# Altium footprint library Potentiometer_THT.PcbLib: 112 footprints (part 3 of 7)
Each footprint in its own frame and in the unit in brackets; x right, y up, seen from the top. Pads: shape width x height; smd on the part's side, far side on the other; paste and mask are expansions set on the pad; w line width, h text height; cw(c..) or ccw(c..) is an arc to the next point about the centre after c.
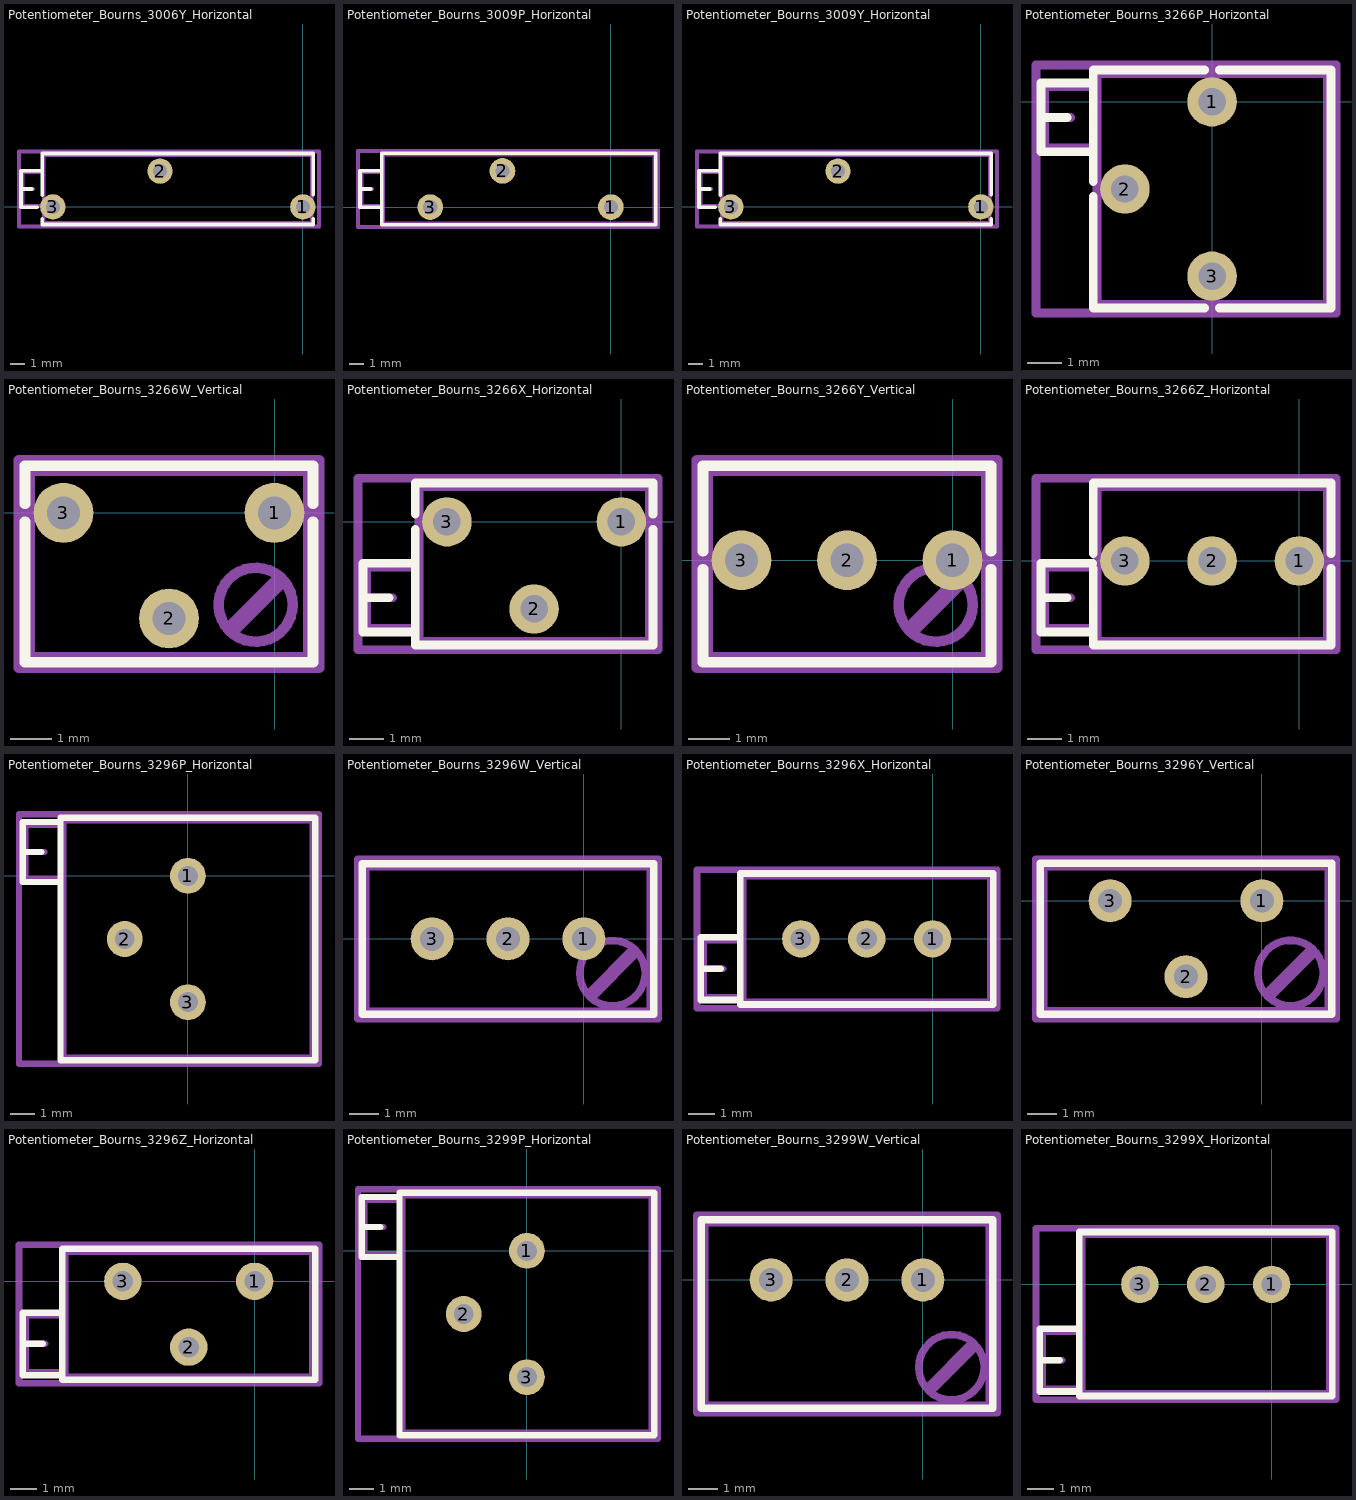
[diagram p2: the footprints below, top view; thin cyan lines are the x and y axes]

## Potentiometer_Bourns_3006Y_Horizontal [mm]
pads (3):
  round 1.8 hole 1: 1(0,0) 2(-10.16,2.54) 3(-17.78,0)
F.SilkS:
  lines w0.254: -20.05,1.27 -19.29,1.27 ; -18.91,-0.02 -20.05,-0.02 -20.05,2.56 -18.53,2.56 -18.53,0.845 -18.53,3.795 0.74,3.795 0.74,0.854 ; -18.53,-0.845 -18.53,-1.255 0.74,-1.255 0.74,-0.854
F.Fab:
  lines w0.254: -19.94,1.27 -19.18,1.27 ; -19.94,0.09 -19.94,2.45 -18.42,2.45 -18.42,0.09 -19.94,0.09 ; -18.42,-1.145 -18.42,3.685 0.63,3.685 0.63,-1.145 -18.42,-1.145
  text "'.Designator'" at -12.942,0.43 h1
F.CrtYd:
  lines w0.254: -20.19,-1.4 -20.19,3.94 1.15,3.94 1.15,-1.4 -20.19,-1.4
3D body "Potentiometer_Bourns_3006Y_Horizontal.step": height 6.45, standoff -2.9, extent -19.94,-1.145 0.63,3.685

## Potentiometer_Bourns_3009P_Horizontal [mm]
pads (3):
  round 1.8 hole 1: 1(0,0) 2(-7.62,2.54) 3(-12.7,0)
F.SilkS:
  lines w0.254: -17.63,1.27 -16.87,1.27 ; -17.63,-0.02 -17.63,2.56 -16.11,2.56 -16.11,-0.02 -17.63,-0.02 ; -16.11,-1.255 -16.11,3.795 3.16,3.795 3.16,-1.255 -16.11,-1.255
F.Fab:
  lines w0.254: -17.52,1.27 -16.76,1.27 ; -17.52,0.09 -17.52,2.45 -16,2.45 -16,0.09 -17.52,0.09 ; -16,-1.145 -16,3.685 3.05,3.685 3.05,-1.145 -16,-1.145
  text "'.Designator'" at -10.522,0.43 h1
F.CrtYd:
  lines w0.254: -17.77,-1.4 -17.77,3.94 3.31,3.94 3.31,-1.4 -17.77,-1.4
3D body "Potentiometer_Bourns_3009P_Horizontal.step": height 9.08, standoff -2.9, extent -17.52,-1.145 3.05,3.685

## Potentiometer_Bourns_3009Y_Horizontal [mm]
pads (3):
  round 1.8 hole 1: 1(0,0) 2(-10.16,2.54) 3(-17.78,0)
F.SilkS:
  lines w0.254: -20.05,1.27 -19.29,1.27 ; -18.91,-0.02 -20.05,-0.02 -20.05,2.56 -18.53,2.56 -18.53,0.845 -18.53,3.795 0.74,3.795 0.74,0.854 ; -18.53,-0.845 -18.53,-1.255 0.74,-1.255 0.74,-0.854
F.Fab:
  lines w0.254: -19.94,1.27 -19.18,1.27 ; -19.94,0.09 -19.94,2.45 -18.42,2.45 -18.42,0.09 -19.94,0.09 ; -18.42,-1.145 -18.42,3.685 0.63,3.685 0.63,-1.145 -18.42,-1.145
  text "'.Designator'" at -12.942,0.43 h1
F.CrtYd:
  lines w0.254: -20.19,-1.4 -20.19,3.94 1.15,3.94 1.15,-1.4 -20.19,-1.4
3D body "Potentiometer_Bourns_3009Y_Horizontal.step": height 9.08, standoff -2.9, extent -19.94,-1.145 0.63,3.685

## Potentiometer_Bourns_3266P_Horizontal [mm]
pads (3):
  round 1.44 hole 0.8: 1(0,0) 2(-2.54,-2.54) 3(0,-5.08)
F.SilkS:
  lines w0.254: -4.985,-0.455 -4.225,-0.455 ; -3.465,-2.757 -3.465,-6.005 -0.217,-6.005 ; -3.465,-2.323 -3.465,0.925 -0.217,0.925 ; 0.217,-6.005 3.465,-6.005 3.465,0.925 0.217,0.925 ; -4.985,-1.455 -4.985,0.545 -3.465,0.545 -3.465,-1.455 -4.985,-1.455
F.Fab:
  lines w0.254: -4.875,-0.455 -4.115,-0.455 ; -4.875,-1.345 -4.875,0.435 -3.355,0.435 -3.355,-1.345 -4.875,-1.345 ; -3.355,-5.895 -3.355,0.815 3.355,0.815 3.355,-5.895 -3.355,-5.895
  text "'.Designator'" at -4.047,-3.38 h1
F.CrtYd:
  lines w0.254: -5.13,-6.15 -5.13,1.07 3.61,1.07 3.61,-6.15 -5.13,-6.15
3D body "Potentiometer_Bourns_3266P_Horizontal.step": height 4.96, standoff -4.88, extent -4.327,-5.895 3.48,0.815

## Potentiometer_Bourns_3266W_Vertical [mm]
pads (3):
  round 1.44 hole 0.8: 1(0,0) 2(-2.54,-2.54) 3(-5.08,0)
F.SilkS:
  lines w0.254: -6.005,-0.217 -6.005,-3.59 0.925,-3.59 0.925,-0.217 ; -6.005,0.217 -6.005,1.13 0.925,1.13 0.925,0.217
F.Fab:
  circle w0.254: c-0.455,-2.21 r0.89
  lines w0.254: -1.13,-2.776 0.111,-1.535 ; -1.021,-2.885 0.22,-1.644 ; -5.895,-3.48 -5.895,1.02 0.815,1.02 0.815,-3.48 -5.895,-3.48
  text "'.Designator'" at -6.861,-1.998 h0.91
F.CrtYd:
  lines w0.254: -6.15,-3.73 -6.15,1.27 1.07,1.27 1.07,-3.73 -6.15,-3.73
3D body "Potentiometer_Bourns_3266W_Vertical.step": height 8.26, standoff -4.88, extent -5.895,-3.52 0.815,0.98

## Potentiometer_Bourns_3266X_Horizontal [mm]
pads (3):
  round 1.44 hole 0.8: 1(0,0) 2(-2.54,-2.54) 3(-5.08,0)
F.SilkS:
  lines w0.254: -7.525,-2.21 -6.765,-2.21 ; -6.005,-0.217 -6.005,-3.59 0.925,-3.59 0.925,-0.217 ; -6.005,0.217 -6.005,1.13 0.925,1.13 0.925,0.217 ; -7.525,-3.21 -7.525,-1.21 -6.005,-1.21 -6.005,-3.21 -7.525,-3.21
F.Fab:
  lines w0.254: -7.415,-2.21 -6.655,-2.21 ; -7.415,-3.1 -7.415,-1.32 -5.895,-1.32 -5.895,-3.1 -7.415,-3.1 ; -5.895,-3.48 -5.895,1.02 0.815,1.02 0.815,-3.48 -5.895,-3.48
  text "'.Designator'" at -6.587,-2.07 h1
F.CrtYd:
  lines w0.254: -7.67,-3.73 -7.67,1.27 1.07,1.27 1.07,-3.73 -7.67,-3.73
3D body "Potentiometer_Bourns_3266X_Horizontal.step": height 7.24, standoff -4.88, extent -6.915,-3.52 0.815,0.98

## Potentiometer_Bourns_3266Y_Vertical [mm]
pads (3):
  round 1.44 hole 0.8: 1(0,0) 2(-2.54,0) 3(-5.08,0)
F.SilkS:
  lines w0.254: -6.005,-0.217 -6.005,-2.45 0.925,-2.45 0.925,-0.217 ; -6.005,0.217 -6.005,2.27 0.925,2.27 0.925,0.217
F.Fab:
  circle w0.254: c-0.405,-1.07 r0.89
  lines w0.254: -1.08,-1.636 0.161,-0.395 ; -0.971,-1.745 0.27,-0.504 ; -5.895,-2.34 -5.895,2.16 0.815,2.16 0.815,-2.34 -5.895,-2.34
  text "'.Designator'" at -6.875,-0.865 h0.92
F.CrtYd:
  lines w0.254: -6.15,-2.59 -6.15,2.41 1.07,2.41 1.07,-2.59 -6.15,-2.59
3D body "Potentiometer_Bourns_3266Y_Vertical.step": height 8.26, standoff -4.88, extent -5.895,-2.25 0.815,2.25

## Potentiometer_Bourns_3266Z_Horizontal [mm]
pads (3):
  round 1.44 hole 0.8: 1(0,0) 2(-2.54,0) 3(-5.08,0)
F.SilkS:
  lines w0.254: -7.525,-1.07 -6.765,-1.07 ; -6.027,-0.07 -7.525,-0.07 -7.525,-2.07 -6.005,-2.07 -6.005,-0.217 -6.005,-2.45 0.925,-2.45 0.925,-0.217 ; -6.005,0.217 -6.005,2.27 0.925,2.27 0.925,0.217
F.Fab:
  lines w0.254: -7.415,-1.07 -6.655,-1.07 ; -7.415,-1.96 -7.415,-0.18 -5.895,-0.18 -5.895,-1.96 -7.415,-1.96 ; -5.895,-2.34 -5.895,2.16 0.815,2.16 0.815,-2.34 -5.895,-2.34
  text "'.Designator'" at -6.587,-0.93 h1
F.CrtYd:
  lines w0.254: -7.67,-2.59 -7.67,2.41 1.07,2.41 1.07,-2.59 -7.67,-2.59
3D body "Potentiometer_Bourns_3266Z_Horizontal.step": height 7.24, standoff -4.88, extent -6.915,-2.25 0.815,2.25

## Potentiometer_Bourns_3296P_Horizontal [mm]
pads (3):
  round 1.44 hole 0.8: 1(0,0) 2(-2.54,-2.54) 3(0,-5.08)
F.SilkS:
  lines w0.254: -6.645,0.955 -5.885,0.955 ; -6.645,-0.25 -6.645,2.16 -5.125,2.16 -5.125,-0.25 -6.645,-0.25 ; -5.125,-7.415 -5.125,2.335 5.125,2.335 5.125,-7.415 -5.125,-7.415
F.Fab:
  lines w0.254: -6.535,0.955 -5.775,0.955 ; -6.535,-0.14 -6.535,2.05 -5.015,2.05 -5.015,-0.14 -6.535,-0.14 ; -5.015,-7.305 -5.015,2.225 5.015,2.225 5.015,-7.305 -5.015,-7.305
  text "'.Designator'" at -4.047,-3.38 h1
F.CrtYd:
  lines w0.254: -6.79,-7.56 -6.79,2.48 5.27,2.48 5.27,-7.56 -6.79,-7.56
3D body "Potentiometer_Bourns_3296P_Horizontal.step": height 4.83, standoff -6.02, extent -5.825,-7.3 5.23,2.23

## Potentiometer_Bourns_3296W_Vertical [mm]
pads (3):
  round 1.44 hole 0.8: 1(0,0) 2(-2.54,0) 3(-5.08,0)
F.SilkS:
  lines w0.254: -7.415,-2.53 -7.415,2.52 2.335,2.52 2.335,-2.53 -7.415,-2.53
F.Fab:
  circle w0.254: c0.955,-1.15 r1.095
  lines w0.254: 0.125,-1.847 1.652,-0.32 ; 0.258,-1.98 1.785,-0.453 ; -7.305,-2.42 -7.305,2.41 2.225,2.41 2.225,-2.42 -7.305,-2.42
  text "'.Designator'" at -7.222,-0.845 h1
F.CrtYd:
  lines w0.254: -7.56,-2.67 -7.56,2.66 2.48,2.66 2.48,-2.67 -7.56,-2.67
3D body "Potentiometer_Bourns_3296W_Vertical.step": height 11.05, standoff -6.02, extent -7.305,-2.42 2.225,2.41

## Potentiometer_Bourns_3296X_Horizontal [mm]
pads (3):
  round 1.44 hole 0.8: 1(0,0) 2(-2.54,0) 3(-5.08,0)
F.SilkS:
  lines w0.254: -8.935,-1.15 -8.175,-1.15 ; -8.935,-2.355 -8.935,0.055 -7.415,0.055 -7.415,-2.355 -8.935,-2.355 ; -7.415,-2.53 -7.415,2.52 2.335,2.52 2.335,-2.53 -7.415,-2.53
F.Fab:
  lines w0.254: -8.825,-1.15 -8.065,-1.15 ; -8.825,-2.245 -8.825,-0.055 -7.305,-0.055 -7.305,-2.245 -8.825,-2.245 ; -7.305,-2.42 -7.305,2.41 2.225,2.41 2.225,-2.42 -7.305,-2.42
  text "'.Designator'" at -6.587,-0.845 h1
F.CrtYd:
  lines w0.254: -9.08,-2.67 -9.08,2.66 2.48,2.66 2.48,-2.67 -9.08,-2.67
3D body "Potentiometer_Bourns_3296X_Horizontal.step": height 10.03, standoff -6.02, extent -8.26,-2.42 2.225,2.41

## Potentiometer_Bourns_3296Y_Vertical [mm]
pads (3):
  round 1.44 hole 0.8: 1(0,0) 2(-2.54,-2.54) 3(-5.08,0)
F.SilkS:
  lines w0.254: -7.415,-3.8 -7.415,1.25 2.335,1.25 2.335,-3.8 -7.415,-3.8
F.Fab:
  circle w0.254: c0.955,-2.42 r1.095
  lines w0.254: 0.125,-3.117 1.652,-1.59 ; 0.258,-3.25 1.785,-1.723 ; -7.305,-3.69 -7.305,1.14 2.225,1.14 2.225,-3.69 -7.305,-3.69
  text "'.Designator'" at -7.222,-2.115 h1
F.CrtYd:
  lines w0.254: -7.56,-3.95 -7.56,1.39 2.48,1.39 2.48,-3.95 -7.56,-3.95
3D body "Potentiometer_Bourns_3296Y_Vertical.step": height 11.05, standoff -6.02, extent -7.305,-3.69 2.225,1.14

## Potentiometer_Bourns_3296Z_Horizontal [mm]
pads (3):
  round 1.44 hole 0.8: 1(0,0) 2(-2.54,-2.54) 3(-5.08,0)
F.SilkS:
  lines w0.254: -8.935,-2.41 -8.175,-2.41 ; -8.935,-3.615 -8.935,-1.205 -7.415,-1.205 -7.415,-3.615 -8.935,-3.615 ; -7.415,-3.79 -7.415,1.26 2.335,1.26 2.335,-3.79 -7.415,-3.79
F.Fab:
  lines w0.254: -8.825,-2.41 -8.065,-2.41 ; -8.825,-3.505 -8.825,-1.315 -7.305,-1.315 -7.305,-3.505 -8.825,-3.505 ; -7.305,-3.68 -7.305,1.15 2.225,1.15 2.225,-3.68 -7.305,-3.68
  text "'.Designator'" at -6.587,-2.105 h1
F.CrtYd:
  lines w0.254: -9.08,-3.93 -9.08,1.41 2.48,1.41 2.48,-3.93 -9.08,-3.93
3D body "Potentiometer_Bourns_3296Z_Horizontal.step": height 10.03, standoff -6.02, extent -8.26,-3.69 2.225,1.14

## Potentiometer_Bourns_3299P_Horizontal [mm]
pads (3):
  round 1.44 hole 0.8: 1(0,0) 2(-2.54,-2.54) 3(0,-5.08)
F.SilkS:
  lines w0.254: -6.645,0.955 -5.885,0.955 ; -6.645,-0.25 -6.645,2.16 -5.125,2.16 -5.125,-0.25 -6.645,-0.25 ; -5.125,-7.415 -5.125,2.335 5.125,2.335 5.125,-7.415 -5.125,-7.415
F.Fab:
  lines w0.254: -6.535,0.955 -5.775,0.955 ; -6.535,-0.14 -6.535,2.05 -5.015,2.05 -5.015,-0.14 -6.535,-0.14 ; -5.015,-7.305 -5.015,2.225 5.015,2.225 5.015,-7.305 -5.015,-7.305
  text "'.Designator'" at -4.047,-3.38 h1
F.CrtYd:
  lines w0.254: -6.79,-7.56 -6.79,2.48 5.27,2.48 5.27,-7.56 -6.79,-7.56
3D body "Potentiometer_Bourns_3299P_Horizontal.step": height 6.2, standoff -2.9, extent -6.75,-7.305 4.8,2.225

## Potentiometer_Bourns_3299W_Vertical [mm]
pads (3):
  round 1.44 hole 0.8: 1(0,0) 2(-2.54,0) 3(-5.08,0)
F.SilkS:
  lines w0.254: -7.415,-4.3 -7.415,2.02 2.335,2.02 2.335,-4.3 -7.415,-4.3
F.Fab:
  circle w0.254: c0.955,-2.92 r1.095
  lines w0.254: 0.125,-3.617 1.652,-2.09 ; 0.258,-3.75 1.785,-2.223 ; -7.305,-4.19 -7.305,1.91 2.225,1.91 2.225,-4.19 -7.305,-4.19
  text "'.Designator'" at -7.222,-1.98 h1
F.CrtYd:
  lines w0.254: -7.56,-4.44 -7.56,2.16 2.48,2.16 2.48,-4.44 -7.56,-4.44
3D body "Potentiometer_Bourns_3299W_Vertical.step": height 11.65, standoff -2.9, extent -7.305,-4.19 2.225,1.91

## Potentiometer_Bourns_3299X_Horizontal [mm]
pads (3):
  round 1.44 hole 0.8: 1(0,0) 2(-2.54,0) 3(-5.08,0)
F.SilkS:
  lines w0.254: -8.935,-2.92 -8.175,-2.92 ; -8.935,-4.125 -8.935,-1.715 -7.415,-1.715 -7.415,-4.125 -8.935,-4.125 ; -7.415,-4.3 -7.415,2.02 2.335,2.02 2.335,-4.3 -7.415,-4.3
F.Fab:
  lines w0.254: -8.825,-2.92 -8.065,-2.92 ; -8.825,-4.015 -8.825,-1.825 -7.305,-1.825 -7.305,-4.015 -8.825,-4.015 ; -7.305,-4.19 -7.305,1.91 2.225,1.91 2.225,-4.19 -7.305,-4.19
  text "'.Designator'" at -6.587,-1.98 h1
F.CrtYd:
  lines w0.254: -9.08,-4.44 -9.08,2.16 2.48,2.16 2.48,-4.44 -9.08,-4.44
3D body "Potentiometer_Bourns_3299X_Horizontal.step": height 10.13, standoff -2.9, extent -8.825,-4.19 2.225,1.91